# Altium footprint library Revo_element.PcbLib: 178 footprints (part 8 of 12)
Each footprint in its own frame and in the unit in brackets; x right, y up, seen from the top. Pads: shape width x height; smd on the part's side, far side on the other; paste and mask are expansions set on the pad; w line width, h text height; cw(c..) or ccw(c..) is an arc to the next point about the centre after c.
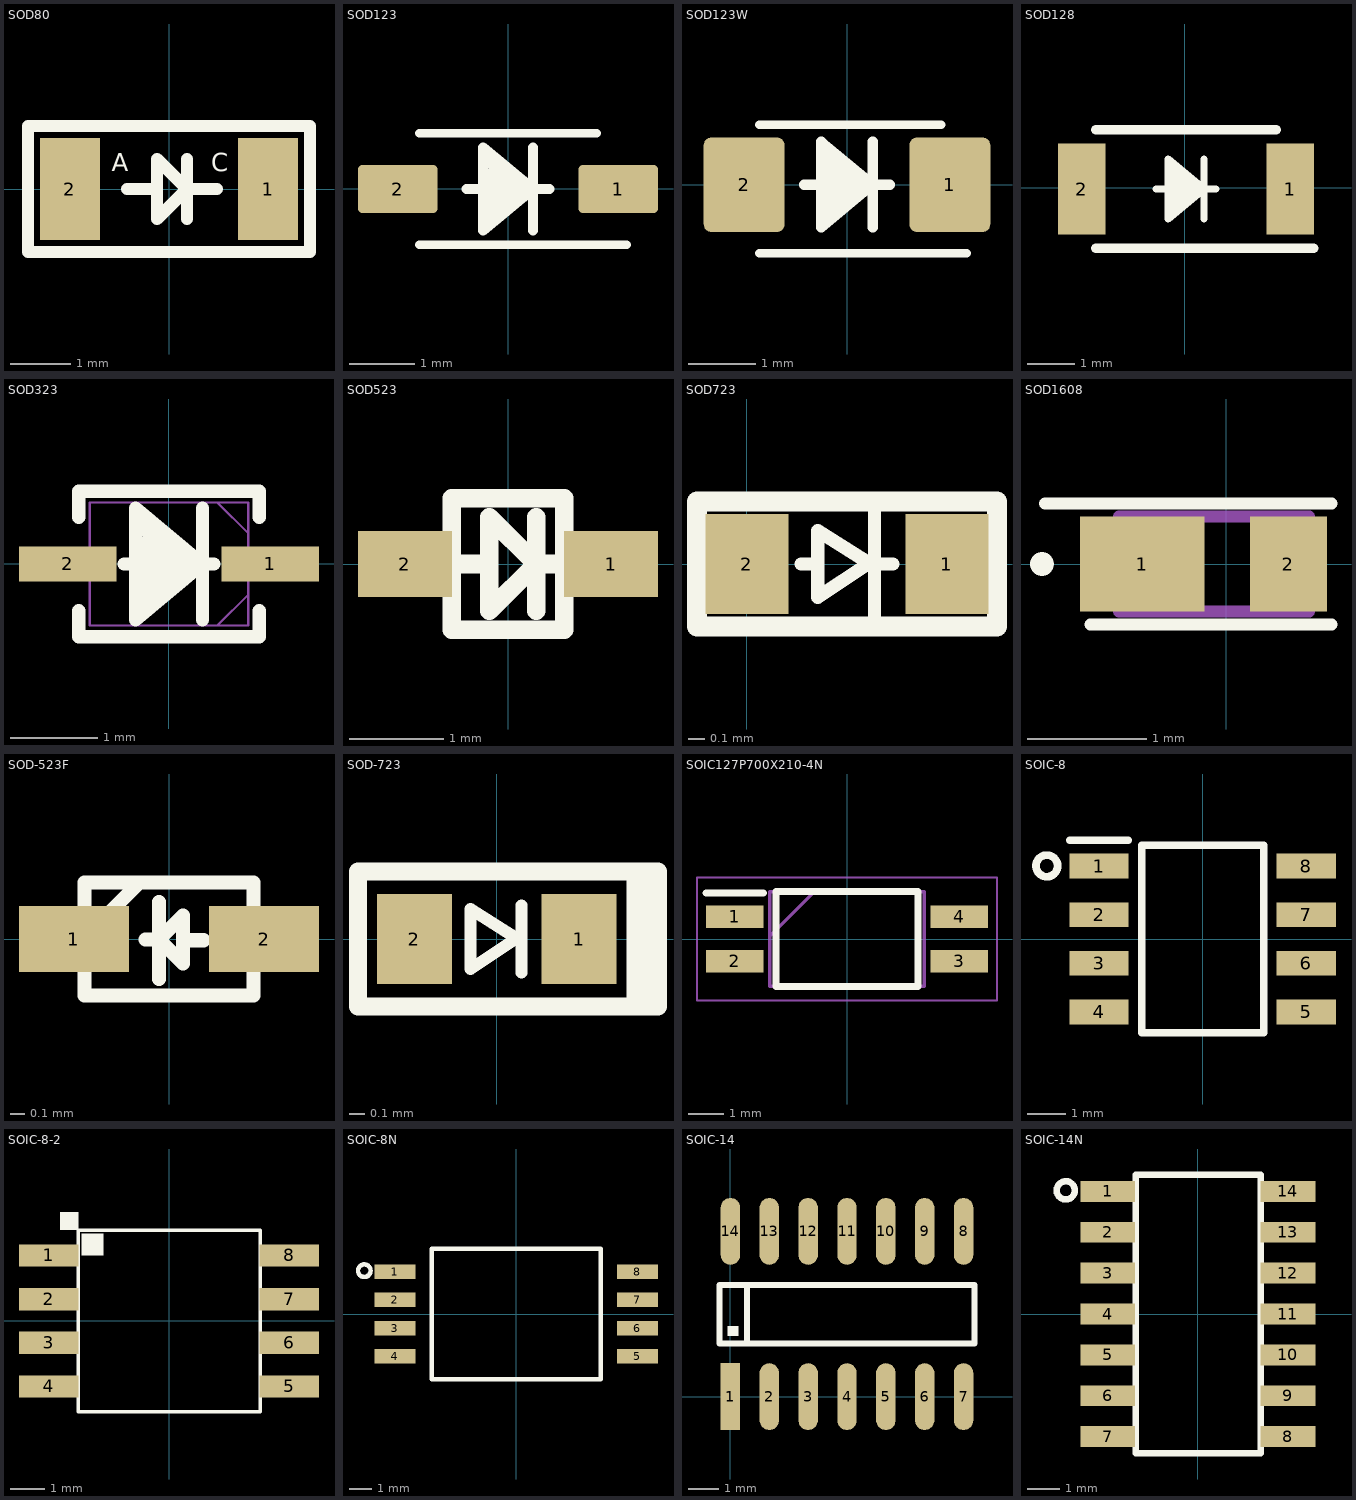
[diagram p7: the footprints below, top view; thin cyan lines are the x and y axes]

## SOD80 [mm]
pads (2):
  rect 1x1.7 smd: 1(1.65,0) 2(-1.65,0)
Top Overlay:
  lines w0.2: -0.7,0 -0.2,0 ; 0.3,-0.5 0.3,0.5 ; 0.8,0 0.3,0 ; 0.3,0 -0.2,-0.5 -0.2,0.5 0.3,0 ; -2.35,-1.05 2.35,-1.05 2.35,1.05 -2.35,1.05 -2.35,-1.05
  text "C" at 0.7,0.3 h0.3
  text "A" at -0.95,0.3 h0.3
3D body: height 1.48, standoff 0.04, extent 0.1,-0.721 0.7,0.721
3D body: height 1.49, standoff 0.04, extent -1.3,-0.72 1.3,0.72

## SOD123 [mm]
pads (2):
  rrect18% 1.21x0.73 smd: 1(1.676,-0.004) 2(-1.684,-0.004)
Top Overlay:
  lines w0.127: -1.354,-0.854 1.807,-0.854 ; -1.354,0.846 1.346,0.846
  lines w0.152: -0.639,-0.004 0.631,-0.004 ; -0.385,-0.512 0.377,-0.004 ; -0.385,-0.131 0.377,-0.004 ; -0.385,0.123 -0.258,0.123 -0.131,-0.004 -0.004,0.123 0.123,0.123 ; -0.258,-0.131 -0.258,-0.385 ; -0.258,0.25 -0.138,0.082 0.377,-0.004 ; -0.258,0.377 -0.157,0.173 0.377,-0.004 ; -0.258,0.504 -0.182,0.275 0.377,-0.004 ; 0.377,-0.639 0.377,0.631 ; -0.385,-0.258 0.377,-0.004 ; -0.385,-0.258 -0.004,-0.131 -0.068,-0.195 -0.195,-0.322 -0.258,-0.385 ; -0.385,-0.258 -0.258,-0.385 ; 0.377,-0.004 -0.385,-0.639 -0.385,0.631 0.377,-0.004
Mechanical 13:
  lines w0.025: -0.385,-0.385 0.377,-0.004 -0.385,0.123 ; 0.377,-0.639 0.377,0.631
3D body "step_temp.STEP": height 1.45, standoff 0, extent -1.829,-0.779 1.821,0.771

## SOD123W [mm]
pads (2):
  rrect18% 1.2x1.4 smd: 1(1.524,0) 2(-1.524,0)
Top Overlay:
  lines w0.127: -1.303,-1.016 1.778,-1.016 ; -1.303,0.889 1.397,0.889
  lines w0.152: -0.635,0 0.635,0 ; -0.381,-0.508 0.381,0 ; -0.381,-0.127 0.381,0 ; -0.381,0.127 -0.254,0.127 -0.127,0 0,0.127 0.127,0.127 ; -0.254,-0.127 -0.254,-0.381 ; -0.254,0.254 -0.134,0.086 0.381,0 ; -0.254,0.381 -0.152,0.178 0.381,0 ; -0.254,0.508 -0.178,0.279 0.381,0 ; 0.381,-0.635 0.381,0.635 ; -0.381,-0.254 0.381,0 ; -0.381,-0.254 0,-0.127 -0.064,-0.191 -0.191,-0.318 -0.254,-0.381 ; -0.381,-0.254 -0.254,-0.381 ; 0.381,0 -0.381,-0.635 -0.381,0.635 0.381,0
Mechanical 13:
  lines w0.025: -0.381,-0.381 0.381,0 -0.381,0.127 ; 0.381,-0.635 0.381,0.635
3D body "SOD123W.step": height 1.05, standoff -0.02, extent -1.75,-0.961 1.75,0.889

## SOD128 [mm]
pads (2):
  rect 1x1.93 smd: 1(2.223,-0.025) 2(-2.177,-0.025)
Top Overlay:
  lines w0.152: -0.612,-0.025 0.658,-0.025 ; -0.358,-0.533 0.404,-0.025 ; -0.358,-0.152 0.404,-0.025 ; -0.358,0.102 -0.231,0.102 -0.104,-0.025 0.023,0.102 0.15,0.102 ; -0.231,-0.152 -0.231,-0.406 ; -0.231,0.229 -0.111,0.061 0.404,-0.025 ; -0.231,0.356 -0.13,0.153 0.404,-0.025 ; -0.231,0.483 -0.155,0.254 0.404,-0.025 ; 0.404,-0.66 0.404,0.61 ; -0.358,-0.279 -0.231,-0.406 ; -0.358,-0.279 0.023,-0.152 -0.041,-0.216 -0.168,-0.343 -0.231,-0.406 ; -0.358,-0.279 0.404,-0.025 ; 0.404,-0.025 -0.358,0.61 -0.358,-0.66 0.404,-0.025
  lines w0.2: -1.877,-1.275 2.723,-1.275 ; -1.877,1.225 1.923,1.225
Mechanical 13:
  lines w0.025: -0.358,-0.406 0.404,-0.025 -0.358,0.102 ; 0.404,-0.66 0.404,0.61
3D body "PMEG4030EP,115.stp": height 1.07, standoff 0, extent -2.331,-1.291 2.369,1.309

## SOD323 [mm]
pads (2):
  rect 1.111x0.401 smd paste+0 mask+0: 1(1.15,0) 2(-1.15,0)
Top Overlay:
  lines w0.152: -1.027,-0.533 -1.027,-0.827 1.027,-0.827 1.027,-0.533 ; -1.027,0.533 -1.027,0.827 1.027,0.827 1.027,0.533 ; -0.508,0 0.508,0 ; -0.381,-0.508 0.381,0 ; -0.381,-0.127 0.381,0 ; -0.381,0.127 -0.254,0.127 -0.127,0 0,0.127 0.127,0.127 ; -0.254,-0.127 -0.254,-0.381 ; -0.254,0.254 -0.134,0.086 0.381,0 ; -0.254,0.381 -0.152,0.178 0.381,0 ; -0.254,0.508 -0.178,0.279 0.381,0 ; 0.381,-0.635 0.381,0.635 ; -0.381,-0.254 0.381,0 ; -0.381,-0.254 0,-0.127 -0.064,-0.191 -0.191,-0.318 -0.254,-0.381 ; -0.381,-0.254 -0.254,-0.381 ; 0.381,0 -0.381,-0.635 -0.381,0.635 0.381,0
Mechanical 13:
  lines w0.025: -0.381,-0.381 0.381,0 -0.381,0.127 ; 0.381,-0.635 0.381,0.635 ; 0.55,-0.7 0.9,-0.35 ; 0.55,0.7 0.9,0.35 ; -1.35,-0.175 -0.9,-0.175 -0.9,0.175 -1.35,0.175 -1.35,-0.175 ; -0.9,-0.7 0.9,-0.7 0.9,0.7 -0.9,0.7 -0.9,-0.7 ; 0.9,-0.175 1.35,-0.175 1.35,0.175 0.9,0.175 0.9,-0.175
3D body "SOD323_DIO.step": height 0.81, standoff 0, extent -1.35,-0.7 1.35,0.7

## SOD523 [mm] "1N4148"
pads (2):
  rect 1x0.7 smd: 1(1.1,0) 2(-1.1,0)
Top Overlay:
  lines w0.2: -0.5,0 -0.2,0 ; 0.3,-0.5 0.3,0.5 ; 0.6,0 0.3,0 ; 0.3,0 -0.2,-0.5 -0.2,0.5 0.3,0 ; -0.6,-0.7 -0.6,0.7 0.6,0.7 0.6,-0.7 -0.6,-0.7
3D body: height 0.7, standoff 0, extent -0.45,-0.65 0.45,0.65

## SOD723 [mm]
pads (2):
  rect 0.5x0.599 smd: 1(1.2,0) 2(0,0)
Top Overlay:
  lines w0.08: 0.325,0 0.425,0 ; 0.7,0.025 0.425,0.2 0.425,-0.2 0.725,0 ; 0.765,-0.375 0.765,0.375 ; 0.775,0 0.875,0
  lines w0.12: -0.3,-0.375 -0.3,0.375 1.5,0.375 1.5,-0.375 -0.3,-0.375

## SOD1608 [mm]
pads (2):
  rect 1.05x0.8 smd: 1(-0.705,0)
  rect 0.65x0.8 smd: 2(0.525,0)
Top Overlay:
  lines w0.1: -1.524,0.508 0.889,0.508 ; -1.143,-0.508 0.889,-0.508 ; -1.6,0 ccw(c-1.55,0) -1.5,0 ccw(c-1.55,0) -1.6,0
Mechanical 13:
  lines w0.1: -0.9,-0.4 -0.9,0.4 0.7,0.4 0.7,-0.4 -0.9,-0.4
3D body: height 0.34, standoff 0.04, extent -1.016,-0.425 0.634,0.425
3D body: height 0.04, standoff 0, extent -1.016,-0.375 -0.216,0.375
3D body: height 0.04, standoff 0, extent 0.234,-0.375 0.635,0.375

## SOD-523F [mm]
pads (2):
  rect 0.78x0.47 smd: 1(-0.675,0) 2(0.675,0)
Top Overlay:
  lines w0.1: -0.6,0.01 -0.21,0.4 ; -0.166,-0.004 -0.072,-0.004 ; -0.072,-0.284 -0.072,-0.004 ; -0.072,0.263 -0.072,-0.004 ; 0.115,-0.009 0.244,-0.009 ; -0.072,-0.004 0.098,-0.174 0.098,0.166 -0.072,-0.004 ; -0.6,-0.4 0.6,-0.4 0.6,0.4 -0.6,0.4 -0.6,-0.4
3D body "1N4148WT.stp": height 0.7, standoff 0, extent -0.8,-0.4 0.8,0.4

## SOD-723 [mm]
pads (2):
  rect 0.5x0.6 smd: 1(0.55,0) 2(-0.55,0)
Top Overlay:
  lines w0.08: 0.1,0.025 -0.175,0.2 -0.175,-0.2 0.125,0 ; 0.165,-0.225 0.165,0.225
  lines w0.12: 0.925,-0.45 0.925,0.45 ; 1,-0.45 1,0.45 ; -0.925,-0.45 1.075,-0.45 1.075,0.45 -0.925,0.45 -0.925,-0.45
3D body: height 0.52, standoff 0, extent -0.525,-0.325 0.525,0.325

## SOIC127P700X210-4N [mm]
pads (4):
  rect 1.65x0.65 smd: 1(-3.2,0.635) 2(-3.2,-0.635) 3(3.2,-0.635) 4(3.2,0.635)
Top Overlay:
  lines w0.2: -4.025,1.31 -2.375,1.31 ; -2.025,-1.35 2.025,-1.35 2.025,1.35 -2.025,1.35 -2.025,-1.35
Mechanical 13:
  lines w0.1: -2.2,0.08 -0.93,1.35 ; -2.2,-1.35 2.2,-1.35 2.2,1.35 -2.2,1.35 -2.2,-1.35
Mechanical 15:
  lines w0.05: -4.275,-1.75 4.275,-1.75 4.275,1.75 -4.275,1.75 -4.275,-1.75
3D body "PS2811-1-F3-K-A.stp": height 2.05, standoff 0.01, extent -3.43,-1.35 3.43,1.35

## SOIC-8 [mm]
pads (8):
  rect 1.55x0.65 smd: 1(-2.711,1.905) 2(-2.711,0.635) 3(-2.711,-0.635) 4(-2.711,-1.905) 5(2.711,-1.905) 6(2.711,-0.635) 7(2.711,0.635) 8(2.711,1.905)
Top Overlay:
  circle w0.2: c-4.078,1.912 r0.283
  lines w0.2: -3.475,2.58 -1.948,2.58 ; -1.598,-2.452 1.598,-2.452 1.598,2.452 -1.598,2.452 -1.598,-2.452
3D body "TCAN1042HGVDRQ1.stp": height 1.63, standoff 0, extent -3.011,-2.451 3.011,2.451

## SOIC-8-2 [mm] "5.28*7.90 W25Q64CV"
pads (8):
  rect 1.73x0.65 smd: 1(-3.5,1.905) 2(-3.5,0.635) 3(-3.5,-0.635) 4(-3.5,-1.905) 5(3.5,-1.905) 6(3.5,-0.635) 7(3.5,0.635) 8(3.5,1.905)
Top Overlay:
  rectangle: -3.175,2.64 -2.64,3.175
  rectangle: -2.54,1.905 -1.905,2.54
  lines w0.1: 2.64,-2.64 -2.64,-2.64 -2.64,2.64 2.64,2.64 ; 2.65,-2.64 2.65,2.64
3D body: height 1.95, standoff 0, extent -2.64,-2.64 2.64,2.64

## SOIC-8N [mm]
pads (8):
  rect 1.85x0.65 smd: 1(-5.45,1.905) 2(-5.45,0.635) 3(-5.45,-0.635) 4(-5.45,-1.905) 5(5.45,-1.905) 6(5.45,-0.635) 7(5.45,0.635) 8(5.45,1.905)
Top Overlay:
  circle w0.2: c-6.827,1.946 r0.283
  lines w0.2: -3.8,-2.925 3.8,-2.925 3.8,2.925 -3.8,2.925 -3.8,-2.925
3D body "ISO1042QDWVRQ1.stp": height 2.7, standoff 0, extent -5.768,-2.925 5.768,2.925

## SOIC-14 [mil]
pads (14):
  rect 24.97x86 smd: 1(0,0)
  oval 24.97x86 smd: 2(50,0) 3(100,0) 4(150,0) 5(200,0) 6(250,0) 7(300,0) 8(300,212.58) 9(250,212.58) 10(200,212.58) 11(150,212.58) 12(100,212.58) 13(50,212.58) 14(0,212.58)
Top Overlay:
  rectangle: -4.04,77.76 10.33,90.55
  lines w8: 21.44,69.49 21.44,143.09 ; -14.19,68.48 314.17,68.48 314.17,143.48 -14.19,143.48 -14.19,68.48
3D body "User Library-SOIC14-150-1.step": height 68.9, standoff 0, extent -17.71,-7.88 318.11,220.47

## SOIC-14N [mm]
pads (14):
  rect 1.7x0.65 smd: 1(-2.8,3.81) 2(-2.8,2.54) 3(-2.8,1.27) 4(-2.8,0) 5(-2.8,-1.27) 6(-2.8,-2.54) 7(-2.8,-3.81) 8(2.8,-3.81) 9(2.8,-2.54) 10(2.8,-1.27) 11(2.8,0) 12(2.8,1.27) 13(2.8,2.54) 14(2.8,3.81)
Top Overlay:
  circle w0.2: c-4.103,3.841 r0.283
  lines w0.2: -1.935,-4.325 1.953,-4.325 1.953,4.325 -1.935,4.325 -1.935,-4.325
3D body "TLV274QDRQ1.stp": height 1.75, standoff 0, extent -3.013,-4.315 3.013,4.335